# Altium schematic symbol library LongNames.SchLib: 2 symbols (part 3 of 3)
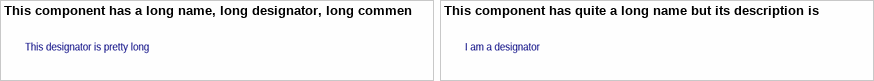
[diagram p2: symbols This component has a long name, long designator, long comment, and long description. Let's see how long we can make this design ID to This component has quite a long name but its description is empty; this should be interesting]

## This component has a long name, long designator, long comment, and long description. Let's see how long we can make this design ID (continued)
non tincidunt ut, varius ullamcorper risus. / Vivamus varius dignissim ante, eu consectetur orci laoreet ac. Sed felis dolor, egestas in venenatis nec, venenatis a massa. Nam vehicula rhoncus ligula ac aliquet. Nam viverra nulla a lobortis cursus. Etiam et enim feugiat, ornare ex eget, hendrerit nisl. Nunc eget nunc porttitor, ultrices ligula suscipit, gravida mi. Praesent facilisis tortor vel pretium finibus. Morbi aliquet faucibus ornare. Donec et faucibus mauris. Aliquam tincidunt fringilla magna. In rutrum mauris vulputate nisi mattis malesuada. / Duis non faucibus leo. In egestas nunc sem, et laoreet massa tristique at. Morbi in purus tempus, interdum diam ac, feugiat augue. Quisque varius maximus ligula, id eleifend nulla sollicitudin ut. Ut molestie odio lacus, sit amet congue nunc lobortis quis. Nam quis turpis blandit, mollis leo ac, congue quam. Pellentesque habitant morbi tristique senectus et netus et malesuada fames ac turpis egestas. / Pellentesque semper felis nunc, et eleifend lorem vulputate ut. Quisque vitae facilisis felis. Nunc ac purus magna. Vivamus nec sagittis quam. Sed pulvinar pharetra risus iaculis imperdiet. Proin hendrerit purus nunc, non molestie nunc luctus auctor. Cras tincidunt ante quis sodales ornare. / Ut tempor nisl ut dapibus pretium. Integer id elit consectetur, pretium mauris vitae, consequat nisi. Etiam sit amet lectus a risus consectetur tincidunt in convallis quam. Nullam felis diam, tempor id justo at, lacinia hendrerit nisi. Nullam molestie nisi sit amet lorem euismod feugiat. Nunc at mi mauris. Morbi a nisi convallis, suscipit dui non, tempus magna. Quisque sodales odio eget molestie pellentesque. Praesent placerat felis a risus efficitur pellentesque. In id leo ut arcu malesuada luctus sed a tortor. Sed cursus nisl congue metus placerat, tincidunt porttitor eros posuere. Maecenas non urna tincidunt, accumsan erat sit amet, fermentum turpis. Ut tellus lectus, ultrices ac leo non, maximus mollis purus. Fusce luctus scelerisque quam, at sollicitudin neque cursus at. Curabitur nec ex eu justo ultricies bibendum. / Nullam tellus leo, accumsan nec nibh a, dignissim egestas arcu. Etiam dignissim orci in luctus viverra. Pellentesque et efficitur sapien, nec posuere velit. Phasellus et diam sed eros vulputate vehicula scelerisque a urna. Aenean sagittis orci mauris, vel porta nisi venenatis id. Ut eget orci consectetur quam hendrerit aliquam. Nam ut interdum massa. Proin dui elit, egestas at dignissim vel, ornare non lacus. Integer laoreet purus libero, ut faucibus eros gravida vitae. Nulla vel efficitur velit. Nulla vulputate consequat ex nec pellentesque. Sed ac auctor erat, sit amet scelerisque ipsum. Suspendisse pretium egestas lectus, eu placerat sapien euismod ut. Duis lobortis libero ut pulvinar faucibus. Donec nec elit a felis mattis viverra. Fusce rutrum congue efficitur. / In non lectus mi. Cras at vehicula ipsum, id convallis diam. Morbi volutpat condimentum ligula, vel tincidunt mauris tincidunt vitae. Pellentesque habitant morbi tristique senectus et netus et malesuada fames ac turpis egestas. Nam nec libero venenatis, sodales urna vel, finibus arcu. Vestibulum scelerisque dapibus neque. Nunc facilisis lacinia tortor, at tincidunt sem finibus in. Morbi facilisis feugiat lectus eu eleifend. Sed quis ipsum eu dui placerat commodo. / Quisque felis est, tempor in tortor at, condimentum viverra est. Mauris placerat gravida elementum. Ut lectus lectus, faucibus non tempus sed, vestibulum in elit. Proin vehicula, magna a consectetur placerat, justo velit gravida est, a aliquam est leo ut diam. Proin feugiat nec ipsum at tempor. Praesent elementum libero sed blandit posuere. Orci varius natoque penatibus et magnis dis parturient montes, nascetur ridiculus mus. Aliquam malesuada justo eget purus tristique maximus. Nunc non nisl pharetra sapien placerat dignissim eu vel mauris. Pellentesque eget purus mattis, ornare ligula sit amet, maximus ante. In sollicitudin ultrices ipsum, in hendrerit mi fringilla a. / Integer mauris mauris, dapibus sed scelerisque sed, ullamcorper ac libero. Mauris quis est sit amet nulla luctus commodo at vitae nunc. Proin convallis tellus efficitur arcu faucibus feugiat. Donec condimentum, turpis in mollis vulputate, velit magna suscipit diam, vel sagittis magna nulla et velit. In vitae felis euismod, ultrices nunc non, molestie sem. Nulla in aliquet quam, vitae placerat quam. Fusce suscipit, leo et dapibus finibus, velit magna molestie augue, a euismod elit ligula ut quam. Morbi vitae suscipit mauris, sit amet viverra dui. Duis est nibh, sagittis quis tempus id, suscipit id purus. Integer libero enim, gravida id mauris ut, imperdiet accumsan diam. Sed luctus aliquet faucibus. Suspendisse dignissim, ligula facilisis viverra molestie, erat turpis vestibulum augue, sed congue nisl est id ante. Mauris nulla metus, finibus quis aliquam sed, venenatis at velit. Proin ullamcorper quam id pulvinar lacinia. Nullam pulvinar dignissim ipsum in eleifend. / Sed pharetra metus semper tortor placerat fermentum. Donec id ex non leo ultrices porttitor suscipit vel dolor. Vestibulum malesuada neque non nulla eleifend bibendum. Quisque nec placerat eros. Praesent hendrerit ultricies mi, volutpat euismod massa lobortis eget. Proin nec turpis vitae tellus eleifend imperdiet nec a dolor. Donec aliquet sodales porta. Phasellus ac orci consequat, laoreet nisi eu, aliquam lorem. Phasellus interdum libero et orci malesuada pulvinar. Morbi eget diam vitae arcu porttitor bibendum. Morbi auctor ante faucibus, dapibus dui sit amet, venenatis nisl. Mauris placerat, nunc sed mattis suscipit, dui risus lacinia elit, at molestie sapien magna quis leo. Aliquam tincidunt rhoncus turpis quis maximus. Nunc finibus, ipsum in mattis sagittis, erat nunc posuere libero, varius feugiat neque eros vitae erat. Etiam euismod dignissim ligula at ultricies. Ut diam lectus, convallis id lacus non, viverra lacinia est. / In nec magna dignissim, vulputate odio ac, tristique tellus. Donec ut magna quis orci venenatis gravida vitae nec metus. Curabitur sed risus sapien. Donec erat enim, sodales iaculis sem in, egestas vehicula diam. Aliquam eu ipsum orci. Aliquam magna magna, elementum et faucibus id, ornare non nunc. Donec quis consectetur velit. Pellentesque dapibus fringilla tellus, et luctus sapien pretium ac. / Nunc ornare sapien quis leo varius, id porttitor eros vehicula. Vivamus vehicula rutrum leo, vel efficitur nisl dictum ut. Suspendisse placerat luctus tristique. Ut quis massa sagittis, accumsan ligula sed, commodo ligula. Nunc interdum diam sed enim sodales tempus. Integer luctus ipsum nisi, in ullamcorper mi lobortis sit amet. Donec in tempus massa. Nullam placerat, lacus quis tincidunt eleifend, leo dui viverra lorem, id pulvinar purus metus ut risus. Cras finibus neque at ligula porta, vel malesuada diam finibus. Phasellus iaculis fringilla sodales. Aenean non tincidunt turpis. Nunc iaculis, lectus tincidunt volutpat condimentum, lectus risus viverra massa, sed gravida metus ex nec augue. Vestibulum nec sagittis turpis. Fusce ultricies nibh nec quam hendrerit maximus sed ut nulla. Vivamus tempus lacus odio, lobortis mollis lectus interdum egestas. / Ut volutpat mi id velit consectetur placerat. Vestibulum ac suscipit libero, id tristique lorem. Etiam mi odio, egestas quis tellus vitae, finibus commodo libero. Maecenas finibus mattis dui, eu feugiat massa sagittis et. Quisque ut ex tristique, condimentum neque vel, rutrum odio. Vestibulum ante ipsum primis in faucibus orci luctus et ultrices posuere cubilia curae; Morbi interdum enim non lacus auctor, non faucibus urna semper. Nulla pellentesque laoreet tellus, id euismod augue rutrum ut. Duis pretium massa neque, a elementum nunc tempus sit amet. Etiam sed est nibh. In eu sem erat. / Sed sit amet bibendum nisi. Nulla aliquet, velit ut pulvinar iaculis, felis sem eleifend nunc, non convallis ante eros et sem. Nullam accumsan ipsum nec ultrices scelerisque. Sed vel dapibus dui. Suspendisse id scelerisque urna. Phasellus suscipit fringilla turpis quis euismod. Cras volutpat risus eu tortor feugiat vulputate. Integer sodales elementum feugiat. Nam at sapien vitae velit euismod ultrices eu nec ligula. Etiam ullamcorper sollicitudin dolor, eu mattis ante tincidunt nec. Curabitur vitae finibus nibh, eget feugiat nisl. Nam tortor odio, vehicula ut sem quis, vestibulum tempor magna. Fusce ac pretium est. Quisque ultrices ex ac efficitur vestibulum. Phasellus vitae felis ante. Integer at ornare ante. / Nunc mauris libero, tincidunt eu sem commodo, convallis imperdiet massa. Maecenas ante nunc, ullamcorper id vehicula sit amet, consequat vitae sapien. Nulla ac elementum orci, eu blandit turpis. Aenean posuere, nisi at convallis malesuada, massa nunc varius lorem, a ultricies sapien eros quis nisl. Aliquam posuere laoreet enim ut condimentum. Duis tincidunt nunc dictum tortor ornare, sit amet egestas risus varius. Etiam sit amet nisl urna. / Suspendisse viverra, tellus a pretium porta, elit mauris accumsan magna, nec egestas massa leo sollicitudin mauris. Nullam molestie vel tortor in lacinia. Curabitur in est diam. Nulla vel venenatis tellus. Pellentesque blandit enim nec vestibulum rhoncus. Aenean condimentum eros auctor, sagittis elit id, accumsan diam. Vivamus varius nunc et tincidunt imperdiet. Aliquam erat volutpat. Sed quis ultricies eros. Integer consectetur odio eros, eu iaculis ligula maximus non. / Interdum et malesuada fames ac ante ipsum primis in faucibus. Nunc vel laoreet dui, in pretium magna. Nam facilisis varius enim in iaculis. Proin ac mauris nec mauris iaculis finibus. Phasellus in hendrerit urna. Phasellus risus nisl, volutpat sed hendrerit ut, tincidunt ac sapien. Nullam eu dictum nunc. Etiam nec ultrices tortor. Phasellus convallis, erat sit amet rhoncus lobortis, ligula sem ultrices turpis, ut facilisis nibh arcu et velit. Mauris sit amet tortor leo. Fusce tristique tellus eget congue feugiat. Aenean interdum ultrices posuere. Duis ut turpis felis. Quisque blandit nibh eu odio dictum, a auctor elit tristique. Donec sapien massa, suscipit in efficitur vulputate, scelerisque ac elit. / Curabitur a eros nisi. Quisque odio mi, ultricies nec finibus eu, porta eu felis. Nullam lobortis ex massa, vitae maximus nisi gravida sed. Cras mauris neque, elementum et ornare eget, posuere at felis. Duis molestie nisi a mi congue vestibulum. Duis ultricies volutpat lectus, sit amet ornare lorem commodo sed. Donec facilisis euismod magna eget bibendum. Sed lobortis nisi at felis gravida, vitae feugiat velit imperdiet. Aenean vitae condimentum nibh. Integer placerat convallis neque, lobortis porta ligula porttitor nec. / Sed a tempus odio, at sagittis massa. Duis convallis auctor mi, sed placerat lacus dictum in. Quisque in venenatis dui, eu aliquam ligula. Aliquam suscipit, erat non mollis placerat, dui quam pretium odio, sit amet rutrum elit mauris a nisl. In ut quam metus. Mauris venenatis tristique ligula feugiat pretium. Proin nec odio lacus. Donec arcu purus, eleifend ac augue posuere, hendrerit suscipit lacus. Praesent sagittis rutrum vehicula. Nullam convallis augue non leo hendrerit, eget malesuada ipsum vestibulum. In porttitor molestie mauris. Donec lectus quam, blandit in vulputate id, tristique quis purus. In hac habitasse platea dictumst. Donec velit tortor, ultricies accumsan vulputate ut, pulvinar et nisi. Pellentesque eleifend scelerisque ligula. / Mauris vel mauris lacinia, accumsan risus nec, auctor elit. Maecenas sollicitudin vel urna ac vehicula. Cras ultricies consequat sodales. Integer magna massa, pharetra vitae orci ut, pellentesque rhoncus justo. In faucibus viverra aliquam. Ut sit amet luctus mauris. Quisque eget metus tortor. In aliquet tempus risus, at pellentesque enim vulputate in. Maecenas id scelerisque justo, ut sodales neque. Fusce consequat dapibus venenatis. Suspendisse nec rutrum ipsum. In pharetra blandit leo. Integer vehicula dictum congue. Nam faucibus, ipsum nec sagittis imperdiet, arcu sem dignissim sem, sed rutrum lectus sem id tellus. Donec vitae tempor magna. Sed sit amet bibendum felis, vitae posuere orci. / Etiam tristique nisl aliquet justo volutpat ullamcorper. Pellentesque suscipit, lacus et elementum venenatis, ex odio efficitur quam, in dictum tortor lectus a mi. Sed odio orci, placerat vel magna a, dapibus rutrum tortor. Etiam eget dui sodales, maximus elit sed, bibendum tortor. Nulla auctor porttitor augue, quis malesuada quam sagittis sit amet. Etiam eu mi egestas, suscipit nisl a, finibus sem. Donec sit amet pretium augue. Maecenas in lacinia ante. / Curabitur tempor, lacus sed maximus tempus, neque ex ullamcorper metus, vel tempus ante diam a erat. Vivamus congue blandit ante, nec vestibulum velit pharetra tristique. Proin suscipit tristique felis et vehicula. Lorem ipsum dolor sit amet, consectetur adipiscing elit. Vivamus ut arcu sit amet justo condimentum eleifend. Morbi consectetur mauris ante. Donec porta efficitur mauris, at feugiat leo varius ut. Proin ut sem id quam mattis blandit. Nam suscipit porta fringilla. Vestibulum pellentesque enim enim, tempus suscipit orci volutpat non. Pellentesque nulla ipsum, dapibus non tempus ut, porttitor vel risus. Orci varius natoque penatibus et magnis dis parturient montes, nascetur ridiculus mus. / Morbi gravida tortor a sem aliquam, eu ullamcorper nunc fringilla. Curabitur mauris sem, pulvinar vel dapibus at, eleifend id velit. Aenean tincidunt ultricies accumsan. Sed fermentum enim vel lacus molestie rutrum. Fusce mollis enim tortor, id aliquam mi lacinia in. Vestibulum eu varius magna. In tristique eu lacus vel dapibus. Mauris feugiat faucibus mattis. Curabitur non blandit ex. Quisque erat elit, ultrices ac elementum et, pellentesque non sem. Etiam imperdiet enim eros, in mollis nisi sagittis in. Pellentesque congue magna sed eros tincidunt rutrum. Mauris non enim suscipit, dictum dui et, fermentum odio. / Mauris vel orci eu ipsum placerat venenatis et a ante. Fusce semper finibus massa, et ultrices felis rhoncus sit amet. Fusce id ex volutpat, ornare massa at, vehicula lacus. Mauris urna arcu, egestas a dictum vitae, imperdiet at orci. Nam non nisi lorem. Sed eget venenatis odio. Etiam molestie pharetra ligula sollicitudin pellentesque. / Vestibulum tincidunt magna nec massa ullamcorper accumsan. Pellentesque habitant morbi tristique senectus et netus et malesuada fames ac turpis egestas. Maecenas placerat facilisis vehicula. Fusce nec lorem vel est ullamcorper pellentesque. Donec sem tortor, consectetur at sem et, consectetur fringilla magna. Maecenas eu fringilla felis. Nam nec neque quis sapien blandit ullamcorper a eu turpis. Maecenas sit amet imperdiet felis. Sed ut placerat metus. Cras ante augue, efficitur non quam sed, luctus rhoncus odio. Proin tempor varius nibh malesuada suscipit. Nulla ut ex ut sem ultricies feugiat a vel orci. Praesent pulvinar eros tortor, at dapibus dolor rutrum nec. In porttitor bibendum ultricies. Suspendisse ut mattis tellus, accumsan laoreet diam. Donec nec vulputate magna. / Suspendisse auctor iaculis risus, eget pretium velit tristique id. Aenean in venenatis ex. Donec sit amet molestie augue, eget fringilla ipsum. Vestibulum ante ipsum primis in faucibus orci luctus et ultrices posuere cubilia curae; Proin gravida libero eu rutrum consequat. Nullam posuere maximus libero a convallis. Pellentesque habitant morbi tristique senectus et netus et malesuada fames ac turpis egestas. Vivamus quam risus, sagittis ac sollicitudin viverra, ultricies ut ligula. In vestibulum augue lectus, vitae cursus arcu consectetur quis. Nulla tristique quis quam quis elementum. Maecenas imperdiet erat purus, at ultricies velit bibendum sit amet. Quisque feugiat quam ut malesuada efficitur. Praesent malesuada est ut neque efficitur scelerisque cras amet.

## This component has quite a long name but its description is empty; this should be interesting
designator I am a designator, comment Here is a comment  (value not drawn)